# EAGLE library part SN74HC14DR (library graftel-internal-ic)
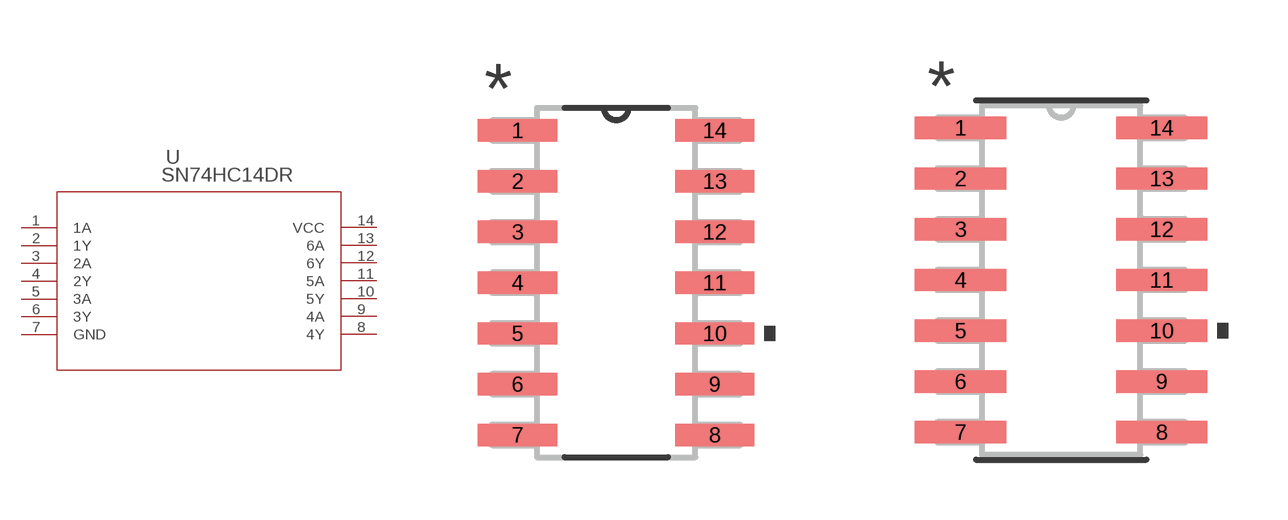
[diagram p91: symbol with the pads of D14; footprints D14, D14-M]

Designator prefix U

## SN74HC14DR (DATASHEET_URL: http://www.ti.com/lit/gpn/SN74HC14; DESCRIPTION: Hex Schmitt-Trigger Inverters; FAMILY_NAME: INVERTING BUFFER/DRIVER; GENERIC_PART_NUMBER: SN74HC14; INDUSTRY_STD_PKG_TYPE: SOIC; MANUFACTURER: Texas Instruments; PACKAGE_DESIGNATOR: D; PIN_COUNT: 14)  [D14]
1  1A  in
2  1Y  out
3  2A  in
4  2Y  out
5  3A  in
6  3Y  out
7  GND  pwr
8  4Y  out
9  4A  in
10  5Y  out
11  5A  in
12  6Y  out
13  6A  in
14  VCC  pwr

## SN74HC14DRD14-M (DATASHEET_URL: http://www.ti.com/lit/gpn/SN74HC14; DESCRIPTION: Hex Schmitt-Trigger Inverters; FAMILY_NAME: INVERTING BUFFER/DRIVER; GENERIC_PART_NUMBER: SN74HC14; INDUSTRY_STD_PKG_TYPE: SOIC; MANUFACTURER: Texas Instruments; PACKAGE_DESIGNATOR: D; PIN_COUNT: 14)  [D14-M]
Pads as for D14

## SN74HC14DRD14-L (DATASHEET_URL: http://www.ti.com/lit/gpn/SN74HC14; DESCRIPTION: Hex Schmitt-Trigger Inverters; FAMILY_NAME: INVERTING BUFFER/DRIVER; GENERIC_PART_NUMBER: SN74HC14; INDUSTRY_STD_PKG_TYPE: SOIC; MANUFACTURER: Texas Instruments; PACKAGE_DESIGNATOR: D; PIN_COUNT: 14)  [D14-L]
Pads as for D14

## Footprint D14 (pad centres in mm)
smd 1.981 x 0.559: 1 -2.464,3.81; 2 -2.464,2.54; 3 -2.464,1.27; 4 -2.464,0; 5 -2.464,-1.27; 6 -2.464,-2.54; 7 -2.464,-3.81; 8 2.464,-3.81; 9 2.464,-2.54; 10 2.464,-1.27; 11 2.464,0; 12 2.464,1.27; 13 2.464,2.54; 14 2.464,3.81

## Footprint D14-M (pad centres in mm)
smd 2.286 x 0.559: 1 -2.515,3.81; 2 -2.515,2.54; 3 -2.515,1.27; 4 -2.515,0; 5 -2.515,-1.27; 6 -2.515,-2.54; 7 -2.515,-3.81; 8 2.515,-3.81; 9 2.515,-2.54; 10 2.515,-1.27; 11 2.515,0; 12 2.515,1.27; 13 2.515,2.54; 14 2.515,3.81

## Footprint D14-L (pad centres in mm)
smd 1.676 x 0.508: 1 -2.413,3.81; 2 -2.413,2.54; 3 -2.413,1.27; 4 -2.413,0; 5 -2.413,-1.27; 6 -2.413,-2.54; 7 -2.413,-3.81; 8 2.413,-3.81; 9 2.413,-2.54; 10 2.413,-1.27; 11 2.413,0; 12 2.413,1.27; 13 2.413,2.54; 14 2.413,3.81